# Altium footprint library ELKO_d18_h15_p7_5.PcbLib: 1 footprints
Each footprint in its own frame and in the unit in brackets; x right, y up, seen from the top. Pads: shape width x height; smd on the part's side, far side on the other; paste and mask are expansions set on the pad; w line width, h text height; cw(c..) or ccw(c..) is an arc to the next point about the centre after c.
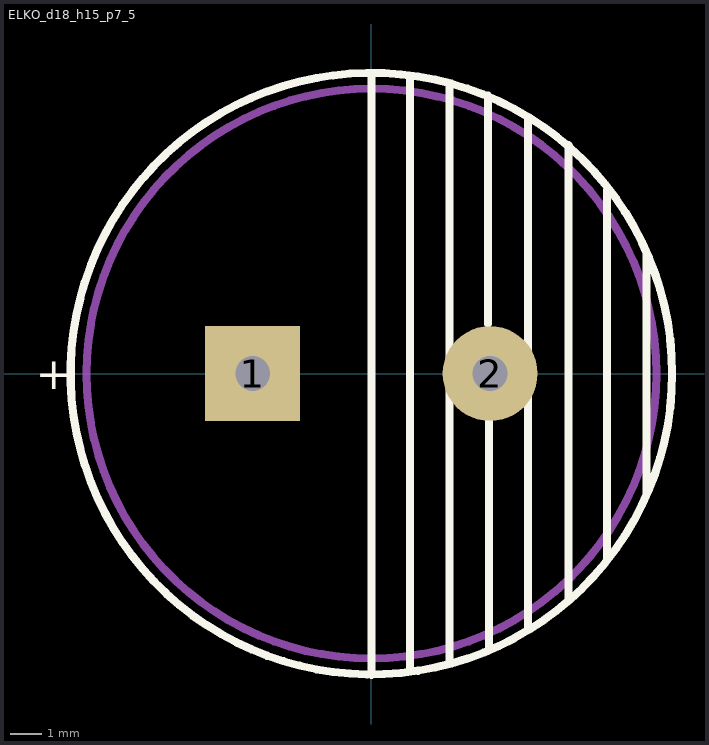
[diagram p0: the footprint, top view; thin cyan lines are the x and y axes]

## ELKO_d18_h15_p7_5 [mm]
height 15
pads (2):
  rect 3x3 hole 1.1: 1(-3.75,0)
  round 3 hole 1.1: 2(3.75,0)
Top Overlay:
  circle w0.254: c0,0 r9.5
  lines w0.254: 0,-9.525 0,9.474 ; 1.219,-9.347 1.219,9.398 ; 2.464,-9.144 2.464,9.169 ; 3.683,1.575 3.683,8.788 ; 3.708,-8.687 3.708,-1.397 ; 4.953,-8.077 4.953,8.052 ; 6.223,-7.061 6.223,7.214 ; 7.442,-5.791 7.442,5.791 ; 8.687,-3.759 8.687,3.759
  text "+" at -10.6,-0.5 h1
Mechanical 1:
  circle w0.254: c0,0 r9
3D body "User Library-HE Series 18X15.STEP": height 15, standoff -2.5, extent -9.051,-8.983 8.949,9.017